# Altium schematic symbol library Inductor.SchLib: 18 symbols
Pins are listed as number, name and electrical type; pins without a type are passive.

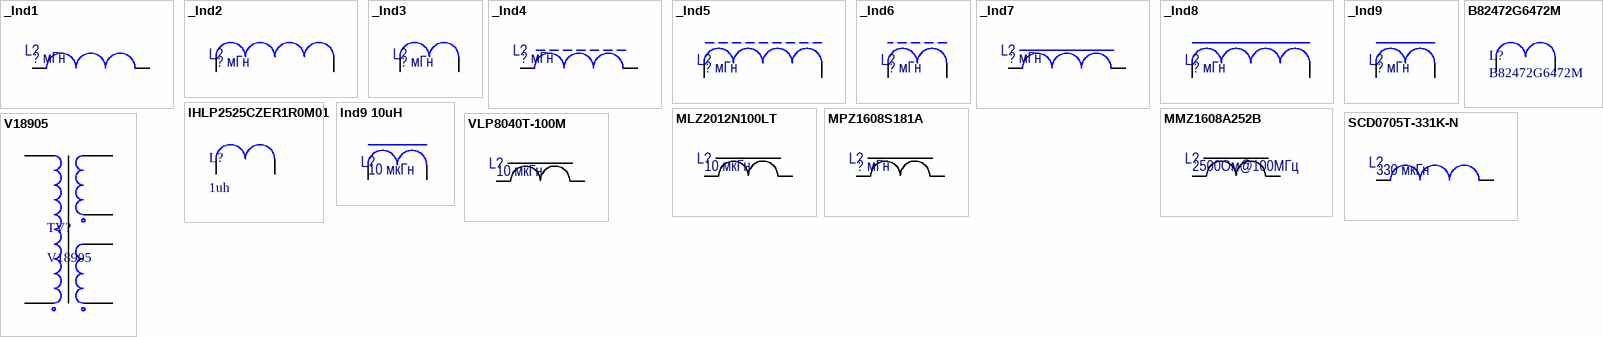
[diagram p0: symbols _Ind1 to VLP8040T-100M]

## _Ind1
designator L?, comment ? мГн
Inductor; ManufacturerPartNumber: ?; ComponentLink1Description: Datasheet; ComponentLink2Description: Datasheet-local; ComponentLink2URL: *; Value: ? мГн
pins: 0, 1

## _Ind2
designator L?, comment ? мГн
Inductor; ManufacturerPartNumber: ?; ComponentLink1Description: Datasheet; ComponentLink2Description: Datasheet-local; ComponentLink2URL: *; Value: ? мГн
pins: 0, 1

## _Ind3
designator L?, comment ? мГн
Inductor; ManufacturerPartNumber: ?; ComponentLink1Description: Datasheet; ComponentLink2Description: Datasheet-local; ComponentLink2URL: *; Value: ? мГн
pins: 0, 1

## _Ind4
designator L?, comment ? мГн
Inductor; ManufacturerPartNumber: ?; ComponentLink1Description: Datasheet; ComponentLink2Description: Datasheet-local; ComponentLink2URL: *; Value: ? мГн
pins: 0, 1

## _Ind5
designator L?, comment ? мГн
Inductor; ManufacturerPartNumber: ?; ComponentLink1Description: Datasheet; ComponentLink2Description: Datasheet-local; ComponentLink2URL: *; Value: ? мГн
pins: 0, 1

## _Ind6
designator L?, comment ? мГн
Inductor; ManufacturerPartNumber: ?; ComponentLink1Description: Datasheet; ComponentLink2Description: Datasheet-local; ComponentLink2URL: *; Value: ? мГн
pins: 0, 1

## _Ind7
designator L?, comment ? мГн
Inductor; ManufacturerPartNumber: ?; ComponentLink1Description: Datasheet; ComponentLink2Description: Datasheet-local; ComponentLink2URL: *; Value: ? мГн
pins: 0, 1

## _Ind8
designator L?, comment ? мГн
Inductor; ManufacturerPartNumber: ?; ComponentLink1Description: Datasheet; ComponentLink2Description: Datasheet-local; ComponentLink2URL: *; Value: ? мГн
pins: 0, 1

## _Ind9
designator L?, comment ? мГн
Inductor; ManufacturerPartNumber: ?; ComponentLink1Description: Datasheet; ComponentLink2Description: Datasheet-local; ComponentLink2URL: *; Value: ? мГн
pins: 0, 1
1 alternate drawing of the same symbol

## B82472G6472M
designator L?
Fixed Inductors 4.7uH 2A 20 % 7.3x7.3mm SMD; Manufacturer: TDK EPCOS; Core Material: Ferrite; Shielding: Shielded; Tolerance: 20%; DC Resistance (DCR): 30mR; Test Frequency: 100kHz; DC Current: 2.5A; Supplier 1: Mouser; Manufacturer Part Number: B82472G6472M; Stock 1: 986; Pricing 1: 1=1.3, 10=1.22, 50=1.22, 100=0.854, 1000=0.683, 10000=0.448 (USD); Mount: Surface Mount; Case/Package: SMD/SMT; Number of Pins: 2; Weight: 0.052911oz; Packaging: Tape and Reel; Inductance: 4.7uh; Max DC Current: 2A; Saturation Current: 2A; Military Standard: Not; Inductance Tolerance: 20%; Package Quantity: 1000; Termination: SMD/SMT; RMS Current (Irms): 2.5A; Length: 7.3mm; Height: 4.5mm; Width: 7.3mm; Depth: 7.5mm; REACH SVHC: No SVHC; ComponentLink1URL: https://datasheet.ciiva.com/5874/78362-5874896.pdf; ComponentLink1Description: https://datasheet.ciiva.com/5874/78362-5874896.pdf; ComponentLink2URL: https://datasheet.ciiva.com/8003/78362-8003419.pdf; ComponentLink2Description: https://datasheet.ciiva.com/8003/78362-8003419.pdf; ComponentLink3URL: https://datasheet.ciiva.com/22700/1899161-22700808.pdf; ComponentLink3Description: https://datasheet.ciiva.com/22700/1899161-22700808.pdf; Supplier Part Number 1: 871-B82472G6472M000
footprint B82472G6 (Precision Wire Wound Inductor, 2-Leads, Body 7,30x7,30mm, IPC Medium Density)
pins: 1, 2

## IHLP2525CZER1R0M01
designator L?, comment 1uh
Fixed Inductors 1uH 20%; Manufacturer: Vishay Intertechnology; ManufacturerPartNumber: IHLP2525CZER1R0M01; Core Material: Ferrite,Metal,Composite; DC Resistance (DCR): 10mR; Self Resonant Frequency: 5MHz; Shielding: Shielded; Current Rating: 11A; Test Frequency: 100KHz; Saturation Current: 22A; Supplier 1: Digi-Key; Stock 1: 20756; Pricing 1: 1=2.28, 10=2.105, 100=1.4732, 500=1.1926, 1000=1.0873 (USD); Mount: Surface Mount; Case/Package: 2525; Number of Pins: 2; Contact Plating: Tin; Min Operating Temperature: -55°C; Max Operating Temperature: 125°C; Tolerance: 20%; Inductance: 1uh; Packaging: Tape and Reel; Inductance Tolerance: 20%; Max DC Current: 11A; Termination: SMD/SMT; Package Quantity: 2000; RMS Current (Irms): 11A; Military Standard: Not; Length: 7.24mm; Height: 3mm; Depth: 6.72mm; Width: 6.47mm; Radiation Hardening: No; REACH SVHC: Unknown; Lead Free: Lead Free; ComponentLink1URL: https://datasheet.ciiva.com/26793/ihlp2525czer1r0m01-26793528.pdf; ComponentLink1Description: https://datasheet.ciiva.com/26793/ihlp2525czer1r0m01-26793528.pdf; ComponentLink2URL: https://datasheet.ciiva.com/26953/70201586-26953275.pdf; ComponentLink2Description: https://datasheet.ciiva.com/26953/70201586-26953275.pdf; ComponentLink3URL: https://datasheet.ciiva.com/28363/1913191-28363405.pdf; ComponentLink3Description: https://datasheet.ciiva.com/28363/1913191-28363405.pdf; ComponentLink4URL: https://datasheet.ciiva.com/29042/lp25cz01-29042182.pdf; ComponentLink4Description: https://datasheet.ciiva.com/29042/lp25cz01-29042182.pdf; ComponentLink5URL: https://datasheet.ciiva.com/25647/lp25cz01-25647418.pdf; ComponentLink5Description: https://datasheet.ciiva.com/25647/lp25cz01-25647418.pdf; Supplier Part Number 1: 541-1006-1-ND
footprint IHLP-2525CZ-01 (Molded Inductor, 2-Leads, Body 6,47x6,47mm, IPC Medium Density)
pins: 1, 2

## Ind9 10uH
designator L?, comment 10 мкГн
Inductor; ManufacturerPartNumber: B82477R4103M100; Manufacturer: EPCOS AG; ComponentLink1Description: Datasheet; Price: 81; Package: SMD 12.5*12.5*8.5; Supplier: Промэлектроника; Value: 10 мкГн
footprint INDP7972X50M (Precision Wire Wound Inductor, 2-Leads, Body 7,90x7,20mm, IPC Low Density)
pins: 1, 2
1 alternate drawing of the same symbol

## MLZ2012N100LT
designator L?, comment 10 мкГн
Катушка 500mA 10мкГн; ManufacturerPartNumber: MPZ1608S181A; Manufacturer: TDK; ComponentLink1Description: Datasheet; ComponentLink1URL: http://www.mouser.com/ds/2/400/inductor_commercial_decoupling_mlz_en-348849.pdf; Package: 2012; Supplier: Промэлектроника; ComponentLink2Description: Datasheet-local; ComponentLink2URL: *; Value: 10 мкГн
footprint MLZ2012
pins: 1, 2

## MMZ1608A252B
designator L?, comment 2500Ом@100МГц
Феррит 2500Ом@100МГц; ManufacturerPartNumber: MMZ1608A252B; Manufacturer: TDK; ComponentLink1Description: Datasheet; ComponentLink1URL: http://product.tdk.com/en/catalog/datasheets/e9412_mmz.pdf; Price: 10.14; Package: 2012; Supplier: Промэлектроника; ComponentLink2Description: Datasheet-local; Value: 2500Ом@100МГц
footprint MMZ1608
pins: 1, 2

## MPZ1608S181A
designator L?, comment ? мГн
Феррит 180Ом@100МГц. R@dc 0.05ohms 2.0A; ManufacturerPartNumber: MPZ1608S181A; ComponentLink1Description: Datasheet; Supplier: Промэлектроника; ComponentLink2Description: Datasheet-local; ComponentLink2URL: *; Value: ? мГн
footprint MMZ1608
pins: 1, 2

## SCD0705T-331K-N
designator L?, comment 330 мкГн
Inductor; ManufacturerPartNumber: SCD0705T-331K-N; ComponentLink1Description: Datasheet; ComponentLink1URL: http://download.siliconexpert.com/pdfs/2010/12/8/6/47/4/732/yageo_/manual/inductors_smdpower_scd_2010.pdf; ComponentLink2Description: Datasheet-local; ComponentLink2URL: *; Value: 330 мкГн
footprint INDP7972X50M (Precision Wire Wound Inductor, 2-Leads, Body 7,90x7,20mm, IPC Low Density)
pins: 1, 2

## V18905
designator TV?
EE16/5 Tranformer
footprint V18950 (Transformer)
pins: 1, 2, 3, 4, 5, 8

## VLP8040T-100M
designator L?, comment 10 мкГн
Катушка 3.2A 10мкГн; ManufacturerPartNumber: VLP8040T-100M; Manufacturer: TDK; ComponentLink1Description: Datasheet; ComponentLink1URL: http://www.mouser.com/ds/2/400/inductor_commercial_decoupling_mlz_en-348849.pdf; Package: 2012; Supplier: Промэлектроника; ComponentLink2Description: Datasheet-local; ComponentLink2URL: *; Value: 10 мкГн
footprint VLP8040 (Wound Ferrite, Inductors for Power Circuits)
pins: 1, 2